# EAGLE library part DA09 (library switch-dil)
DIL/CODE SWITCH
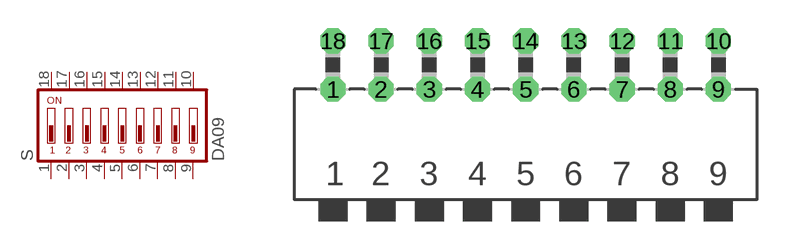
[diagram p28: symbol with the pads of DA-09; footprint DA-09]

Designator prefix S

## DA09 (MPN: MCDA09; OC_FARNELL: 1522003; OC_NEWARK: 74M2975)  [DA-09]
1  1  pas
2  2  pas
3  3  pas
4  4  pas
5  5  pas
6  6  pas
7  7  pas
8  8  pas
9  9  pas
10  10  pas
11  11  pas
12  12  pas
13  13  pas
14  14  pas
15  15  pas
16  16  pas
17  17  pas
18  18  pas

## Footprint DA-09 (pad centres in mm)
DIL/CODE SWITCH Mors
drill 0.813 octagon: 1 -10.16,-1.27; 2 -7.62,-1.27; 3 -5.08,-1.27; 4 -2.54,-1.27; 5 0,-1.27; 6 2.54,-1.27; 7 5.08,-1.27; 8 7.62,-1.27; 9 10.16,-1.27; 10 10.16,1.27; 11 7.62,1.27; 12 5.08,1.27; 13 2.54,1.27; 14 0,1.27; 15 -2.54,1.27; 16 -5.08,1.27; 17 -7.62,1.27; 18 -10.16,1.27